# EAGLE library part W9327-ZC158 (library F030NG)
PLCC68 socket plug by Wislow Adaptics
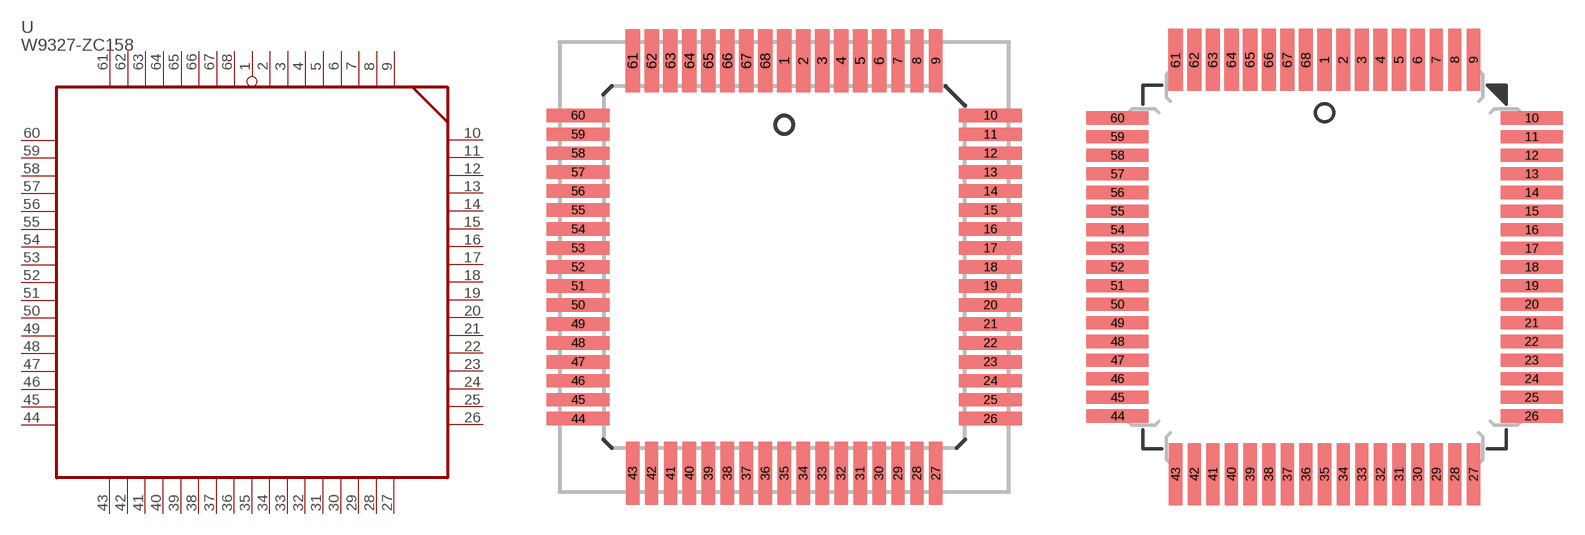
[diagram p94: symbol with the pads of W9327-*; footprints W9327-*, W9327_PHV]

Designator prefix U

## W9327-ZC158  [W9327-*]
1  P1
2  P2
3  P3
4  P4
5  P5
6  P6
7  P7
8  P8
9  P9
10  P10
11  P11
12  P12
13  P13
14  P14
15  P15
16  P16
17  P17
18  P18
19  P19
20  P20
21  P21
22  P22
23  P23
24  P24
25  P25
26  P26
27  P27
28  P28
29  P29
30  P30
31  P31
32  P32
33  P33
34  P34
35  P35
36  P36
37  P37
38  P38
39  P39
40  P40
41  P41
42  P42
43  P43
44  P44
45  P45
46  P46
47  P47
48  P48
49  P49
50  P50
51  P51
52  P52
53  P53
54  P54
55  P55
56  P56
57  P57
58  P58
59  P59
60  P60
61  P61
62  P62
63  P63
64  P64
65  P65
66  P66
67  P67
68  P68

## W9327-ZC158PHV  [W9327_PHV]
Pads as for W9327-*

## Footprint W9327-* (pad centres in mm)
PLASTIC LEADED CHIP CARRIER square
smd 0.97 x 4.2: 1 0,13.815; 2 1.27,13.815; 3 2.54,13.815; 4 3.81,13.815; 5 5.08,13.815; 6 6.35,13.815; 61 -10.16,13.815; 62 -8.89,13.815; 63 -7.62,13.815; 64 -6.35,13.815; 65 -5.08,13.815; 66 -3.81,13.815; 67 -2.54,13.815; 68 -1.27,13.815
smd 0.9 x 4.2: 7 7.62,13.815; 8 8.89,13.815; 9 10.16,13.815; 27 10.16,-13.815; 28 8.89,-13.815; 29 7.62,-13.815; 30 6.35,-13.815; 31 5.08,-13.815; 32 3.81,-13.815; 33 2.54,-13.815; 34 1.27,-13.815; 35 0,-13.815; 36 -1.27,-13.815; 37 -2.54,-13.815; 38 -3.81,-13.815; 39 -5.08,-13.815; 40 -6.35,-13.815; 41 -7.62,-13.815; 42 -8.89,-13.815; 43 -10.16,-13.815
smd 4.2 x 0.9: 10 13.815,10.16; 11 13.815,8.89; 12 13.815,7.62; 13 13.815,6.35; 14 13.815,5.08; 15 13.815,3.81; 16 13.815,2.54; 17 13.815,1.27; 18 13.815,0; 19 13.815,-1.27; 20 13.815,-2.54; 21 13.815,-3.81; 22 13.815,-5.08; 23 13.815,-6.35; 24 13.815,-7.62; 25 13.815,-8.89; 26 13.815,-10.16; 44 -13.815,-10.16; 45 -13.815,-8.89; 46 -13.815,-7.62; 47 -13.815,-6.35; 48 -13.815,-5.08; 49 -13.815,-3.81; 50 -13.815,-2.54; 51 -13.815,-1.27; 52 -13.815,0; 53 -13.815,1.27; 54 -13.815,2.54; 55 -13.815,3.81; 56 -13.815,5.08; 57 -13.815,6.35; 58 -13.815,7.62; 59 -13.815,8.89; 60 -13.815,10.16

## Footprint W9327_PHV (pad centres in mm)
PLASTIC LEADED CHIP CARRIER square
smd 0.97 x 4.2: 1 0,14.133; 2 1.27,14.133; 3 2.54,14.133; 4 3.81,14.133; 5 5.08,14.133; 6 6.35,14.133; 61 -10.16,14.133; 62 -8.89,14.133; 63 -7.62,14.133; 64 -6.35,14.133; 65 -5.08,14.133; 66 -3.81,14.133; 67 -2.54,14.133; 68 -1.27,14.133
smd 0.9 x 4.2: 7 7.62,14.133; 8 8.89,14.133; 9 10.16,14.133; 27 10.16,-14.133; 28 8.89,-14.133; 29 7.62,-14.133; 30 6.35,-14.133; 31 5.08,-14.133; 32 3.81,-14.133; 33 2.54,-14.133; 34 1.27,-14.133; 35 0,-14.133; 36 -1.27,-14.133; 37 -2.54,-14.133; 38 -3.81,-14.133; 39 -5.08,-14.133; 40 -6.35,-14.133; 41 -7.62,-14.133; 42 -8.89,-14.133; 43 -10.16,-14.133
smd 4.2 x 0.9: 10 14.133,10.16; 11 14.133,8.89; 12 14.133,7.62; 13 14.133,6.35; 14 14.133,5.08; 15 14.133,3.81; 16 14.133,2.54; 17 14.133,1.27; 18 14.133,0; 19 14.133,-1.27; 20 14.133,-2.54; 21 14.133,-3.81; 22 14.133,-5.08; 23 14.133,-6.35; 24 14.133,-7.62; 25 14.133,-8.89; 26 14.133,-10.16; 44 -14.133,-10.16; 45 -14.133,-8.89; 46 -14.133,-7.62; 47 -14.133,-6.35; 48 -14.133,-5.08; 49 -14.133,-3.81; 50 -14.133,-2.54; 51 -14.133,-1.27; 52 -14.133,0; 53 -14.133,1.27; 54 -14.133,2.54; 55 -14.133,3.81; 56 -14.133,5.08; 57 -14.133,6.35; 58 -14.133,7.62; 59 -14.133,8.89; 60 -14.133,10.16